# Altium schematic symbol library ATK_DNESP32S3.SCHLIB: 38 symbols
Pins are listed as number, name and electrical type; pins without a type are passive.

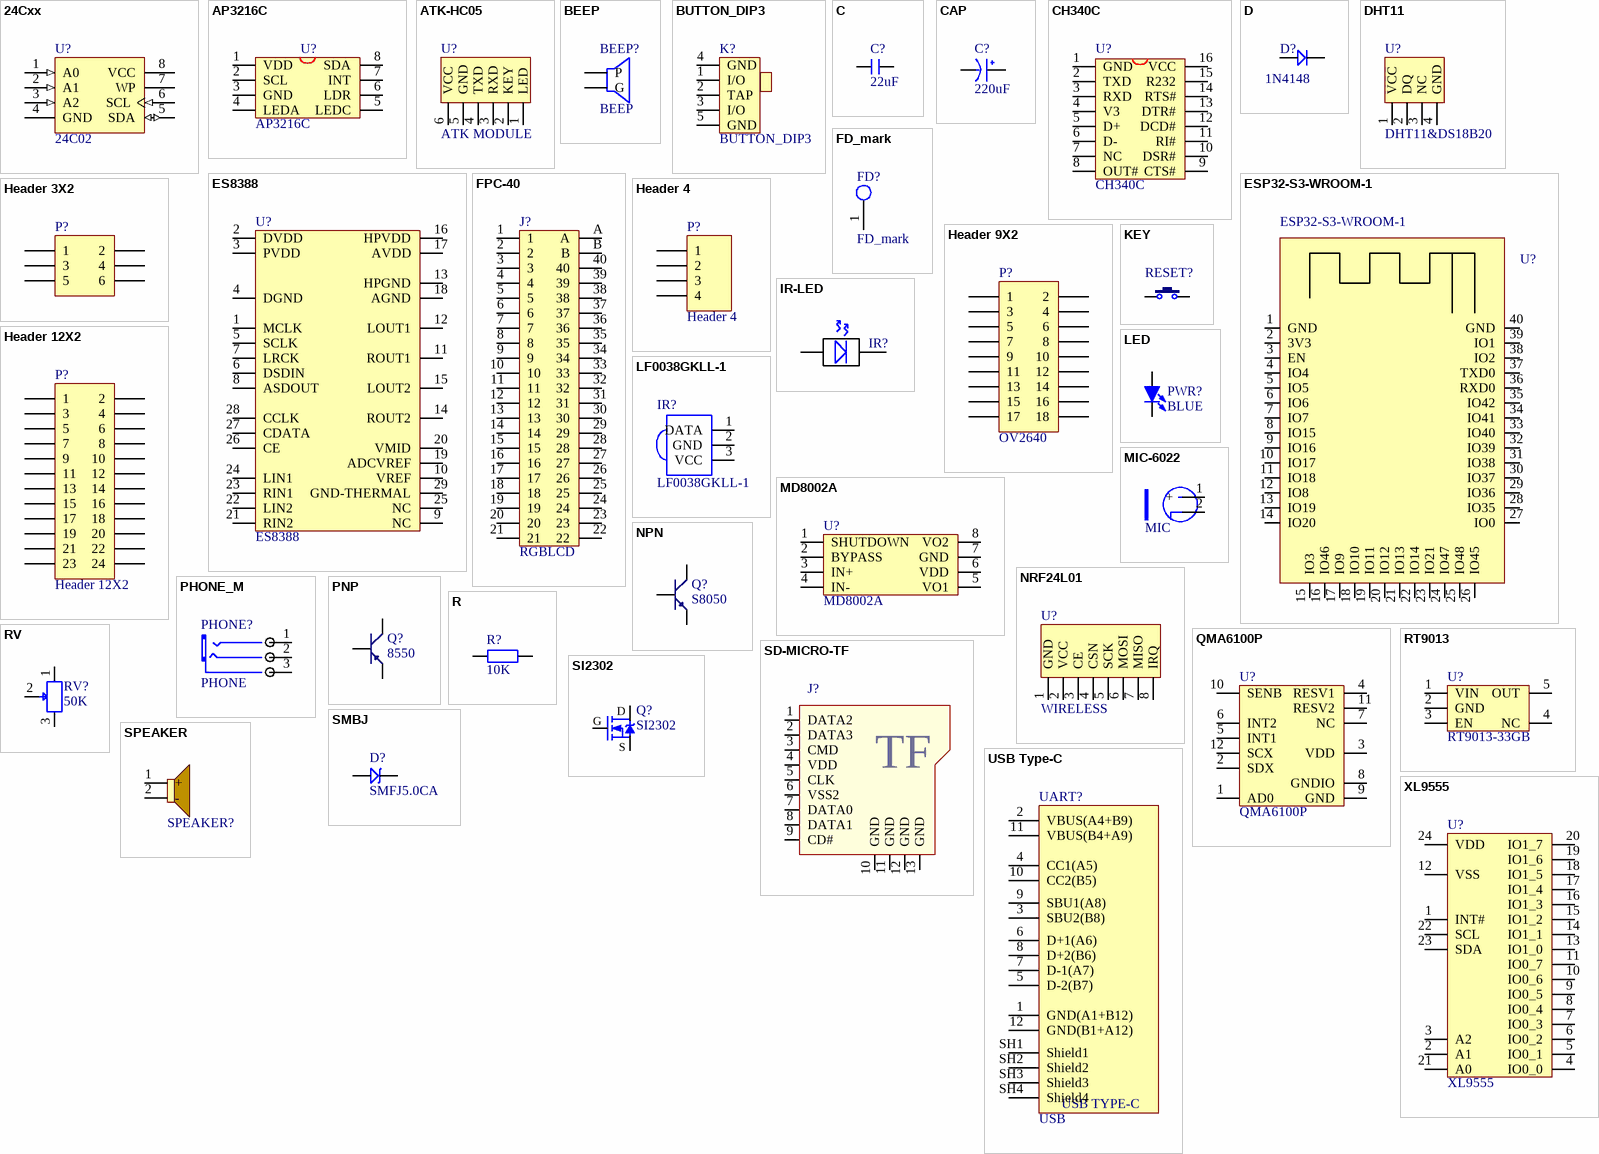
[diagram p0: symbols 24Cxx to XL9555]

## 24Cxx
designator U?, comment 24C02
外置EEPROM; 版权归属: 源创客; BOM名称: 外置EEPROM; 学习资源: www.ooocke.com
footprint SOP8_L (5*6*1.8mm（长宽高）)
footprint SOP8_N (5*6*1.8mm（长宽高）)
footprint SOP8_M (5*6*1.8mm（长宽高）)
footprint SSOP8_L (3*6.4*1.2mm（长宽高）)
footprint SSOP8_N (3*6.4*1.2mm（长宽高）)
footprint SSOP8_M (3*6.4*1.2mm（长宽高）)
pins: 1 A0 (in), 2 A1 (in), 3 A2 (in), 4 GND, 5 SDA (io), 6 SCL (in), 7 WP, 8 VCC (power)

## AP3216C
designator U?
ALS+PS Sensor
footprint QFN8 (QFN,8P,P0.97)
pins: 1 VDD, 2 SCL, 3 GND, 4 LEDA, 5 LEDC, 6 LDR, 7 INT, 8 SDA

## ATK-HC05
designator U?, comment ATK MODULE
ATK-HC05
footprint Socket 2.54 1X6P (排座(1*6P,2.54,直插))
pins: 1 LED, 2 KEY, 3 RXD, 4 TXD, 5 GND, 6 VCC

## BEEP
designator BEEP?
footprint BUZZ0.25
footprint BELL-5 (PIN:5MM,SIZE:10MM)
pins: 1 P, 2 G

## BUTTON_DIP3
designator K?
footprint BTN8.8*4.6 (8.8mm*4.6mm*4.7mm 2段 3脚 波动开关 直立式)
footprint BTN7*7 (7mm*7mm)
pins: 1 I/O, 2 TAP, 3 I/O, 4 GND, 5 GND

## C
designator C?, comment 22uF
无极性电容; BOM名称: 无极性贴片电容; 版权归属: 正点原子; 学习资源: www.openedv.com
footprint C 0201 (无极性贴片电容)
footprint C 0402 (无极性贴片电容)
footprint C 0603 (无极性贴片电容)
footprint C 0805 (无极性贴片电容)
footprint C 1206 (无极性贴片电容)
footprint C 1210 (无极性贴片电容)
footprint C 1808 (无极性贴片电容)
footprint C 1812 (无极性贴片电容)
footprint C 1825 (无极性贴片电容)
footprint C 2225 (无极性贴片电容)
pins: 1, 2

## CAP
designator C?, comment 220uF
footprint C1206
footprint CAP2.54 (RB.1/.2)
footprint CAP5.08 (RB.2/.4)
footprint CAP7.62 (25V 2200uF)
footprint CAP10.16 (50V10000uF)
footprint CAP10.9 (50V 2200uF)
footprint CAP3.0 (100V 10uF)
footprint CAP8.0 (25V/4700uF)
footprint CAP8.0_2 (50V/4700uF)
footprint C7040 (7MM*4MM)
footprint CC1010 (SMD;W:10mm;L:10mm;)
footprint CC6.56.5
footprint CC88 (SMD;W:8mm;L:8mm;)
pins: 1 VCC, 2 GND

## CH340C
designator U?
USB2UART
footprint SOP16M (Small Outline; 16 Leads; Body Width 3.9 mm; Pitch 1.27 mm)
pins: 1 GND, 2 TXD, 3 RXD, 4 V3, 5 D+, 6 D-, 7 NC, 8 OUT#, 9 CTS#, 10 DSR#, 11 RI#, 12 DCD#, 13 DTR#, 14 RTS#, 15 R232, 16 VCC

## D
designator D?, comment 1N4148
footprint SOD-123
footprint DIODE_SOP
footprint DIODE-L (6A10)
footprint DIODE-M (1N5822)
footprint DIODE_S (1N4007)
footprint DIODE_3*5.3 (ME:SS14/SS24;L:5.3mm;W:3mm;)
footprint DIODE_4*5.6 (ME:RS2J.L:5.6mm;W:4mm)
footprint DIODE_6.2*8.13 (ME:RS2J.L:8.13mm;W:6.2mm)
pins: 1, 2

## DHT11
designator U?, comment DHT11&DS18B20
数字温湿度传感器
footprint DHT11 (2.54mm)
pins: 1 VCC, 2 DQ, 3 NC, 4 GND

## ES8388
designator U?
24bit ADC&DAC 96Khz; 版权归属: 正点原子; Parameter: 芯片; 学习资源: www.openedv.com
footprint QFN28 4X4_L (QFN, 28-Leads, Body 4.0x4.0mm (max), Pitch 0.45mm, ES8388)
pins: 1 MCLK, 2 DVDD, 3 PVDD, 4 DGND, 5 SCLK, 6 DSDIN, 7 LRCK, 8 ASDOUT, 9 NC, 10 VREF, 11 ROUT1, 12 LOUT1, 13 HPGND, 14 ROUT2, 15 LOUT2, 16 HPVDD, 17 AVDD, 18 AGND, 19 ADCVREF, 20 VMID, 21 RIN2, 22 LIN2, 23 RIN1, 24 LIN1, 25 NC, 26 CE, 27 CDATA, 28 CCLK, 29 GND-THERMAL

## ESP32-S3-WROOM-1
designator U?  (value not drawn)
footprint ESP32-S3-WROOM (ESP32-S3-WROOM模组)
pins: 1 GND, 2 3V3, 3 EN, 4 IO4, 5 IO5, 6 IO6, 7 IO7, 8 IO15, 9 IO16, 10 IO17, 11 IO18, 12 IO8, 13 IO19, 14 IO20, 15 IO3, 16 IO46, 17 IO9, 18 IO10, 19 IO11, 20 IO12, 21 IO13, 22 IO14, 23 IO21, 24 IO47, 25 IO48, 26 IO45, 27 IO0, 28 IO35, 29 IO36, 30 IO37, 31 IO38, 32 IO39, 33 IO40, 34 IO41, 35 IO42, 36 RXD0, 37 TXD0, 38 IO2, 39 IO1, 40 GND

## FD_mark
designator FD?
光学定位点
footprint FD_MARK
pins: 1

## FPC-40
designator J?, comment RGBLCD
FPC-40P-0.5mm
footprint FPC-TOP40 (FPCTOP;0.5mm;)
pins: 1, 2, 3, 4, 5, 6, 7, 8, 9, 10, 11, 12, 13, 14, 15, 16, 17, 18, 19, 20, 21, 22, 23, 24, 25, 26, 27, 28, 29, 30, 31, 32, 33, 34, 35, 36, 37, 38, 39, 40, A, B

## Header 3X2
designator P?, comment HDR2X3  (value not drawn)
Header, 3-Pin, Dual row; LatestRevisionDate: 17-Jul-2002; LatestRevisionNote: Re-released for DXP Platform.; Publisher: Altium Limited
footprint HDR2X3 (Connector; Header; 3x2 Position)
pins: 1, 2, 3, 4, 5, 6

## Header 4
designator P?
Header, 4-Pin; LatestRevisionDate: 17-Jul-2002; LatestRevisionNote: Re-released for DXP Platform.; Publisher: Altium Limited
footprint HDR1X4 (Connector; Header; 4 Position)
signal-integrity model Connector
pins: 1, 2, 3, 4

## Header 9X2
designator P?, comment OV2640
Header, 9-Pin, Dual row; LatestRevisionDate: 17-Jul-2002; LatestRevisionNote: Re-released for DXP Platform.; Publisher: Altium Limited
footprint Socket 2.54 2X9P (排座(2*9P,2.54,直插))
pins: 1, 2, 3, 4, 5, 6, 7, 8, 9, 10, 11, 12, 13, 14, 15, 16, 17, 18

## Header 12X2
designator P?
Header, 12-Pin, Dual row; LatestRevisionDate: 17-Jul-2002; LatestRevisionNote: Re-released for DXP Platform.; Publisher: Altium Limited
footprint HDR2X12 (Connector; Header; 12x2 Position)
signal-integrity model Connector
pins: 1, 2, 3, 4, 5, 6, 7, 8, 9, 10, 11, 12, 13, 14, 15, 16, 17, 18, 19, 20, 21, 22, 23, 24

## IR-LED
designator IR?  (value not drawn)
1206红外发射管（侧）
footprint IR-LED
pins: 1, 2

## KEY
designator RESET?, comment RST  (value not drawn)
按键; BOM名称: 3x6轻触开关; 版权归属: 正点原子; Parameter: 按键/开关; 学习资源: www.openedv.com
footprint KEY 3.2*4.2*2.5 4P SMD (轻触开关 椭圆形按键 3.2*4.2*2.5mm 4P 贴片)
footprint KEY 3*6*2.5 2P SMD (轻触开关 3*6*2.5mm 2P 贴片)
pins: 1, 2

## LED
designator PWR?, comment BLUE
LED; BOM名称: 插件LED; 版权归属: 正点原子; Parameter: 发光二极管; 学习资源: www.openedv.com
footprint LED 3MM Red (红色3mm直插LED)
footprint LED 0805 Green (绿色0805LED)
footprint LED 0603 Yellow (黄色0603LED)
footprint LED 0603 Red (红色0603LED)
footprint LED 5MM Red (红色5mm直插LED)
footprint LED 0805 Red (红色0805LED)
footprint LED 0603 Green (绿色0603LED)
footprint LED 1206 Red (红色1206LED)
footprint LED 3MM-YC (橙色3mm直插LED)
footprint LED 3MM Blue (蓝色3mm直插LED)
footprint LED 3MM Green (绿色3mm直插LED)
footprint LED 3MM white (白色3mm直插LED)
footprint LED 3MM Yellow (黄色3mm直插LED)
footprint LED 5MM-YC (橙色5mm直插LED)
footprint LED 5MM Green (绿色5mm直插LED)
footprint LED 5MM white (白色5mm直插LED)
footprint LED 5MM Blue (蓝色5mm直插LED)
footprint LED 0805 Yellow (黄色0805LED)
footprint LED 0603 white (白色0603LED)
footprint LED 0603 Blue (蓝色0603LED)
footprint LED 0805 Blue (蓝色0805LED)
footprint LED 0805 white (白色0805LED)
footprint LED 1206 yellow (黄色1206LED)
footprint LED 1206 white (白色1206LED)
footprint LED 1206 Green (绿色1206LED)
footprint LED 1206 Blue (蓝色1206LED)
pins: 1 A, 2 K

## LF0038GKLL-1
designator IR?
红外接收管SMD
footprint LF0038GKLL-1 (微型红外接收头)
pins: 1 DATA, 2 GND, 3 VCC

## MD8002A
designator U?
5V, 3W, 功放IC
footprint SOP-8 (SOP)
pins: 1 SHUTDOWN, 2 BYPASS, 3 IN+, 4 IN-, 5 VO1, 6 VDD, 7 GND, 8 VO2

## MIC-6022
designator MIC?, comment MIC
footprint MIC-6022
pins: 1 +, 2 GND

## NPN
designator Q?, comment S8050
8050/BCW846/BCW847
footprint SOT-23R (SOT-23; 3 Leads; Body 3.0 x 2.5 mm, inc. leads (LxW max))
footprint NPN
pins: 1 E, 2 B, 3 C

## NRF24L01
designator U?, comment WIRELESS
footprint SPI_LCD
footprint SPI_LCD
pins: 1 GND, 2 VCC, 3 CE, 4 CSN, 5 SCK, 6 MOSI, 7 MISO, 8 IRQ

## PHONE_M
designator PHONE?, comment PHONE
footprint PHONE_ST
pins: 1 CHL, 2 CHR, 3 COM

## PNP
designator Q?, comment 8550
8550/BCW68
footprint NPN
footprint SOT-23R (SOT-23; 3 Leads; Body 3.0 x 2.5 mm, inc. leads (LxW max))
pins: 1 E, 2 B, 3 C

## QMA6100P
designator U?
姿态传感器-陀螺仪
footprint QMA6100P (LGA 12-Pins, 2*2*1.1MM)
pins: 1 AD0, 2 SDX, 3 VDD, 4 RESV1, 5 INT1, 6 INT2, 7 NC, 8 GNDIO, 9 GND, 10 SENB, 11 RESV2, 12 SCX

## R
designator R?, comment 10K
贴片电阻; 版权归属: 源创客; BOM名称: 贴片电阻; 学习资源: www.ooocke.com
footprint R 0201 (1/20W贴片电阻)
footprint R 0201-HP (1/20W高精度贴片电阻)
footprint R 0402 (1/16W贴片电阻)
footprint R 0402-HP (1/16W高精度贴片电阻)
footprint R 0603 (1/10W贴片电阻)
footprint R 0603-HP (1/10W高精度贴片电阻)
footprint R 0805 (1/8W贴片电阻)
footprint R 0805-HP (1/8W高精度贴片电阻)
footprint R 1206 (1/4W贴片电阻)
footprint R 1206-HP (1/4W高精度贴片电阻)
footprint R 1210 (1/3W贴片电阻)
footprint R 1210-HP (1/3W高精度贴片电阻)
footprint R 1812 (1/2W贴片电阻)
footprint R 1812-HP (1/2W高精度贴片电阻)
footprint R 2010 (3/4W贴片电阻)
footprint R 2010-HP (3/4W高精度贴片电阻)
footprint R 2512 (1W贴片电阻)
footprint R 2512-HP (1W高精度贴片电阻)
footprint R 0402 NS (1/16W贴片电阻)
footprint R 0603 NS (1/10W贴片电阻)
footprint R 0805 NS (1/8W贴片电阻)
pins: 1, 2

## RT9013
designator U?, comment RT9013-33GB
LDO 5.5V 500mA; BOM名称: 稳压芯片; 版权归属: 正点原子; Parameter: 芯片; 学习资源: www.openedv.com
footprint SOT23-5L (3x1.6x1.1mm(长宽高))
footprint SOT23-5N (3x1.6x1.1mm(长宽高))
footprint SOT23-5M (3x1.6x1.1mm(长宽高))
pins: 1 VIN, 2 GND, 3 EN, 4 NC, 5 OUT

## RV
designator RV?, comment 50K
footprint RV
footprint RV-GF063P1 (6.8*6.8*5.5)
footprint RV
pins: 1, 2, 3

## SD-MICRO-TF
designator J?  (value not drawn)
SD,MICRO,TF
footprint SD-MICRO-TF (TF卡座)
pins: 1 DATA2, 2 DATA3, 3 CMD, 4 VDD, 5 CLK, 6 VSS2, 7 DATA0, 8 DATA1, 9 CD#, 10 GND, 11 GND, 12 GND, 13 GND
text: TF

## SI2302
designator Q?
NMOS 20V-+3.0A 55mΩ; BOM名称: N沟道场效应管; 版权归属: 正点原子; Parameter: MOS管; 学习资源: www.openedv.com
footprint SOT23-3N (3x1.3x1mm(长宽高))
footprint SOT23-3L (3x1.3x1mm(长宽高))
footprint SOT23-3M (3x1.3x1mm(长宽高))
pins: 1 G, 2 S, 3 D

## SMBJ
designator D?, comment SMFJ5.0CA
TVS
footprint SMBJ (3.6*5.4)
footprint SOD-123
footprint SOD-123
pins: 1, 2

## SPEAKER
designator SPEAKER?, comment 2307  (value not drawn)
2307喇叭，8Ω 1W，23mm*7mm，2P
footprint SPEAKER (2307喇叭，8Ω，1W，23mm*7mm，2P)
pins: 1 +, 2 -

## USB Type-C
designator UART?, comment USB
12P TypeC 母座
footprint USB TYPE-C (USB Type-C 12P/16P)
footprint USB Type-C (USB Type-C 12P/16P)
footprint 0402
footprint USB Type-C (USB Type-C 12P/16P)
pins: 1 GND(A1+B12), 2 VBUS(A4+B9), 3 SBU2(B8), 4 CC1(A5), 5 D-2(B7), 6 D+1(A6), 7 D-1(A7), 8 D+2(B6), 9 SBU1(A8), 10 CC2(B5), 11 VBUS(B4+A9), 12 GND(B1+A12), SH1 Shield1, SH2 Shield2, SH3 Shield3, SH4 Shield4
text: USB TYPE-C

## XL9555
designator U?
IO扩展芯片
footprint TSSOP24_M (7.8*6.4*1mm（长宽高）)
pins: 1 INT#, 2 A1, 3 A2, 4 IO0_0, 5 IO0_1, 6 IO0_2, 7 IO0_3, 8 IO0_4, 9 IO0_5, 10 IO0_6, 11 IO0_7, 12 VSS, 13 IO1_0, 14 IO1_1, 15 IO1_2, 16 IO1_3, 17 IO1_4, 18 IO1_5, 19 IO1_6, 20 IO1_7, 21 A0, 22 SCL, 23 SDA, 24 VDD